# EAGLE library part CP2104 (library koch)
Digital-output, 3-axis MEMS gyro IC Manufacturer's datasheet <https://www.invensense.com/wp-content/uploads/2015/02/ITG-3200-Datasheet.pdf>
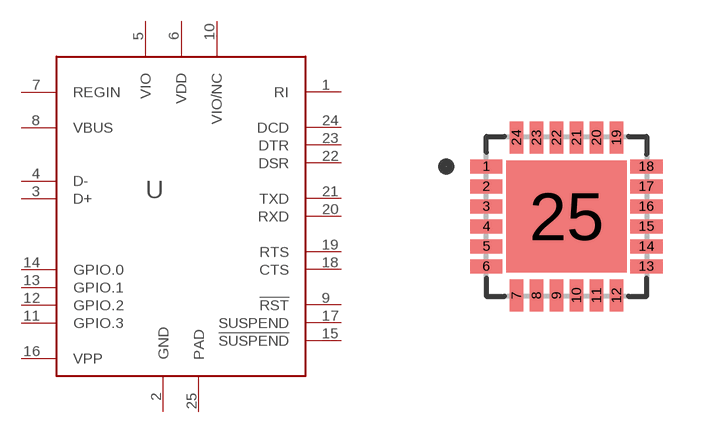
[diagram p11: symbol with the pads of QFN-24; footprint QFN-24]

Designator prefix U

## CP2104 (CREATED_BY: PCBLayout.com; MPN: ITG-3200; PACKAGE: QFN-24)  [QFN-24]
1  RI
2  GND
3  D+
4  D-
5  VIO
6  VDD
7  REGIN
8  VBUS
9  !RST
10  VIO/NC
11  GPIO.3
12  GPIO.2
13  GPIO.1
14  GPIO.0
15  !SUSPEND
16  VPP
17  SUSPEND
18  CTS
19  RTS
20  RXD
21  TXD
22  DSR
23  DTR
24  DCD
25  PAD

## Footprint QFN-24 (pad centres in mm)
smd 0.8 x 0.35: 1 -2,1.25; 2 -2,0.75; 3 -2,0.25; 4 -2,-0.25; 5 -2,-0.75; 6 -2,-1.25; 13 2,-1.25; 14 2,-0.75; 15 2,-0.25; 16 2,0.25; 17 2,0.75; 18 2,1.25
smd 0.35 x 0.8: 7 -1.25,-1.975; 8 -0.75,-1.975; 9 -0.25,-1.975; 10 0.25,-1.975; 11 0.75,-1.975; 12 1.25,-1.975; 19 1.25,1.975; 20 0.75,1.975; 21 0.25,1.975; 22 -0.25,1.975; 23 -0.75,1.975; 24 -1.25,1.975
smd 3 x 2.8: 25 0,0